# Altium schematic symbol library EL-sense_Accelerometer.SchLib: 2 symbols
Pins are listed as number, name and electrical type; pins without a type are passive.

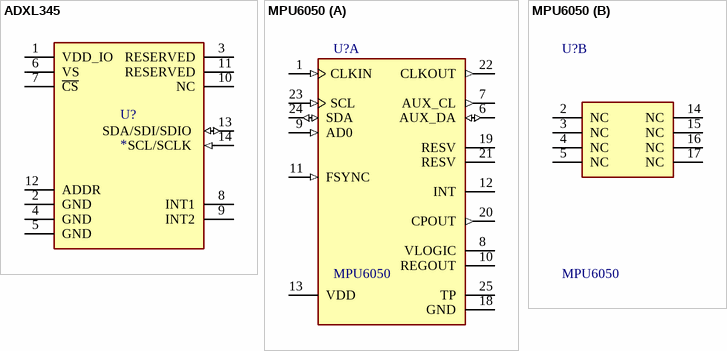
[diagram p0: symbols ADXL345 to MPU6050]

## ADXL345
designator U?
Ultralow power: as low as 23 μA in measurement mode and 0.1 μA in standby mode at VS = 2.5 V (typical) / Power consumption scales automatically with bandwidth / User-selectable resolution / Fixed 10-bit resolution / Full resolution, where resolution increases with g range, up to 13-bit resolution at ±16 g (maintaining 4 mg/LSB scale factor in all g ranges) / See data sheet for additional features.; Manufacturer: Analog Devices; Supplier 1: Newark; Supplier Part Number 1: 18T2104; Case: CC-14-1; ComponentLink1Description: HelpURL; ComponentLink1URL: https://www.analog.com/media/en/technical-documentation/data-sheets/ADXL345.pdf?src-supplier=Farnell
footprint CC-14-1
pins: 1 VDD_IO (power), 2 GND (power), 3 RESERVED "Reserved. This pin must be connected to VS or left open.", 4 GND (power), 5 GND (power), 6 VS (power), 7 ~{CS} (power), 8 INT1, 9 INT2, 10 NC, 11 RESERVED (power) "Reserved. This pin must be connected to ground or left open", 12 ADDR, 13 SDA/SDI/SDIO  (io) "Serial Data (I2C)/Serial Data Input (SPI 4-Wire)/Serial Data Input and Output (SPI 3-Wire)", 14 SCL/SCLK  (in) "Serial Communications Clock. SCL is the clock for I2C, and SCLK is the clock for SPI."

## MPU6050
designator U?
3-Axis Gyroscope, 3-Axis Accelerometer / , 2.375 to 3.46 V, -40 to 105 degC, 24-Pin QFN, RoHS, Tape and Reel; Manufacturer: TDK InvenSense; Supplier 1: Digi-Key; Supplier Part Number 1: 1428-1007-1-ND; Case: 24QFN; ComponentLink1Description: HelpURL; ComponentLink1URL: http://www.farnell.com/datasheets/1788002.pdf?src-supplier=Element14
footprint 24QFN
part A pins: 1 CLKIN (in) "Optional external reference clock input. Connect to GND if unused.", 6 AUX_DA (io) "I2C master serial data, for connecting to external sensors", 7 AUX_CL (out) "I2C Master serial clock, for connecting to external sensors", 8 VLOGIC (power) "Digital I/O supply voltage", 9 AD0 (in) "I2C Slave Address LSB (AD0)", 10 REGOUT "Regulator filter capacitor connection", 11 FSYNC (in) "Frame synchronization digital input. Connect to GND if unused.", 12 INT (oc) "Interrupt digital output (totem pole or open-drain)", 13 VDD (power) "Power supply voltage and Digital I/O supply voltage", 18 GND (power) "Power supply ground", 19 RESV "Reserved. Do not connect.", 20 CPOUT (out) "Charge pump capacitor connection", 21 RESV "Reserved. Do not connect.", 22 CLKOUT (out) "Reserved. Do not connect.", 23 SCL (in) "I2C serial clock (SCL)", 24 SDA (io) "I2C serial data (SDA)", 25 TP
part B pins: 2 NC "Not internally connected. May be used for PCB trace routing.", 3 NC "Not internally connected. May be used for PCB trace routing.", 4 NC "Not internally connected. May be used for PCB trace routing.", 5 NC "Not internally connected. May be used for PCB trace routing.", 14 NC "Not internally connected. May be used for PCB trace routing.", 15 NC "Not internally connected. May be used for PCB trace routing.", 16 NC "Not internally connected. May be used for PCB trace routing.", 17 NC "Not internally connected. May be used for PCB trace routing."